# EAGLE library part LTC6995-1 (library Display_Custom)
TimerBlox: Long Timer, Low Frequency Oscillator LTC6995-1 http://cds.linear.com/docs/en/datasheet/699512fa.pdf
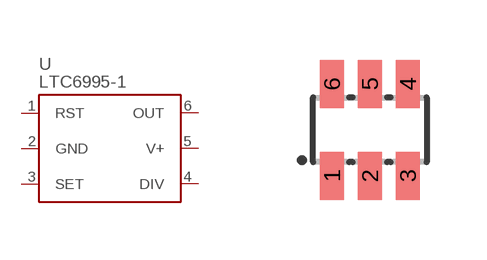
[diagram p4: symbol with the pads of SOT23-6L; footprint SOT23-6L]

Designator prefix -

## LTC6995-1  [SOT23-6L]
1  RST
2  GND
3  SET
4  DIV
5  V+
6  OUT

## Footprint SOT23-6L (pad centres in mm)
Small Outline Transistor SOT23-6L
smd 0.6 x 1.2: 1 -0.95,-1.15; 2 0,-1.15; 3 0.95,-1.15; 4 0.95,1.15; 5 0,1.15; 6 -0.95,1.15